# Altium schematic symbol library IRFP064NPBF.Schlib: 1 symbol
Pins are listed as number, name and electrical type; pins without a type are passive.

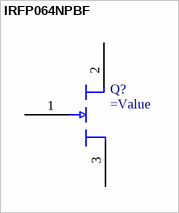
[diagram p0: symbol IRFP064NPBF]

## IRFP064NPBF
designator Q?
=Description
pins: 1, 2, 3